# EAGLE library part IOEX-8243 (library micro-intel)
MICROCOMPUTER/PERIPHERAL DEVICE
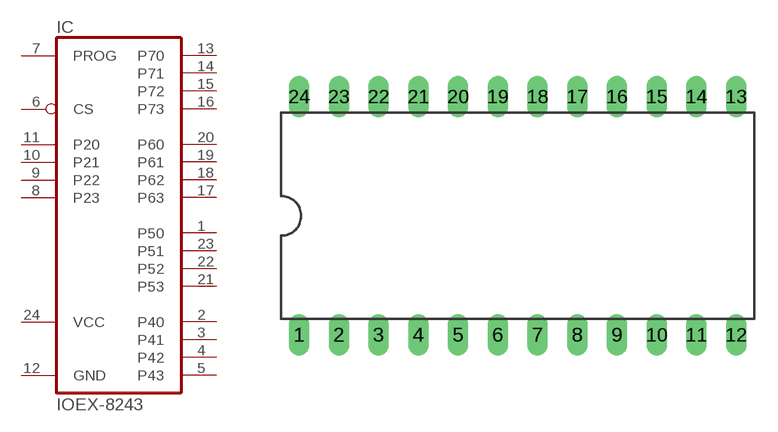
[diagram p25: symbol with the pads of DIL24-6; footprint DIL24-6]

Designator prefix IC

## IOEX-8243  [DIL24-6]
1  P50
2  P40
3  P41
4  P42
5  P43
6  CS  in
7  PROG  in
8  P23
9  P22
10  P21
11  P20
12  GND  pwr
13  P70
14  P71
15  P72
16  P73
17  P63
18  P62
19  P61
20  P60
21  P53
22  P52
23  P51
24  VCC  pwr

## Footprint DIL24-6 (pad centres in mm)
Dual In Line Package 0.6 inch
drill 0.813 long: 1 -13.97,-7.62; 2 -11.43,-7.62; 3 -8.89,-7.62; 4 -6.35,-7.62; 5 -3.81,-7.62; 6 -1.27,-7.62; 7 1.27,-7.62; 8 3.81,-7.62; 9 6.35,-7.62; 10 8.89,-7.62; 11 11.43,-7.62; 12 13.97,-7.62; 13 13.97,7.62; 14 11.43,7.62; 15 8.89,7.62; 16 6.35,7.62; 17 3.81,7.62; 18 1.27,7.62; 19 -1.27,7.62; 20 -3.81,7.62; 21 -6.35,7.62; 22 -8.89,7.62; 23 -11.43,7.62; 24 -13.97,7.62